# EAGLE library part MAX4429 (library ic)
MAX4429: MOSFET driver (Maxim) inverting 18V, 6A Iout, 2.5Ω output
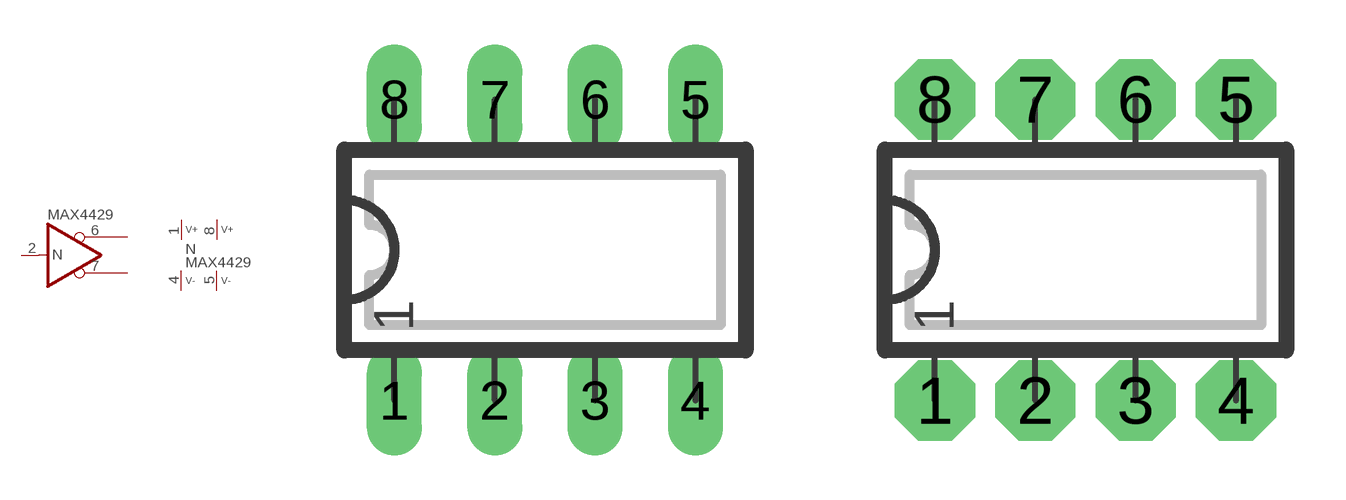
[diagram p87: symbol with the pads of DIP08L; footprints DIP08L, DIP08N]

Designator prefix N; gates  =INV-2OB P=V2+2-

## MAX4429  [DIP08L]
1  P:V+1  pwr
2   :IN  in
4  P:V-1  pwr
5  P:V-2  pwr
6   :OUT  out
7   :OUT  out
8  P:V+2  pwr

## MAX4429L  [DIP08L]
Pads as for DIP08L

## MAX4429N  [DIP08N]
Pads as for DIP08L

## MAX4429R  [DIP08R]
Pads as for DIP08L

## MAX4429S  [SO08]
Pads as for DIP08L

## Footprint DIP08L (pad centres in mm)
DIP-8, long pads Standard IC package, 8 pins
drill 0.813 pad 1.397 long: 1 -3.81,-3.81; 2 -1.27,-3.81; 3 1.27,-3.81; 4 3.81,-3.81; 5 3.81,3.81; 6 1.27,3.81; 7 -1.27,3.81; 8 -3.81,3.81

## Footprint DIP08N (pad centres in mm)
DIP-8 Standard IC package, 8 pins
drill 0.813 pad 2.032 octagon: 1 -3.81,-3.81; 2 -1.27,-3.81; 3 1.27,-3.81; 4 3.81,-3.81; 5 3.81,3.81; 6 1.27,3.81; 7 -1.27,3.81; 8 -3.81,3.81

## Footprint DIP08R (pad centres in mm)
DIP-8, reduced pads Standard IC package, 8 pins
drill 0.813 pad 1.397 square: 1 -3.81,-3.81; 2 -1.27,-3.81; 3 1.27,-3.81; 4 3.81,-3.81; 5 3.81,3.81; 6 1.27,3.81; 7 -1.27,3.81; 8 -3.81,3.81

## Footprint SO08 (pad centres in mm)
SO-8, SMD SOIC IC package, 8 pins
smd 0.635 x 1.778: 1 -1.905,-2.857; 2 -0.635,-2.857; 3 0.635,-2.857; 4 1.905,-2.857; 5 1.905,2.857; 6 0.635,2.857; 7 -0.635,2.857; 8 -1.905,2.857